# Altium schematic symbol library AP2204K-5.0TRG1.SchLib: 1 symbol
Pins are listed as number, name and electrical type; pins without a type are passive.

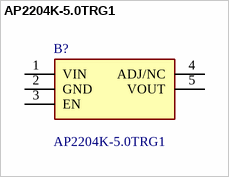
[diagram p0: symbol AP2204K-5.0TRG1]

## AP2204K-5.0TRG1
designator B?
0.2A 5V Low Dropout Regulator SOT-23 DiodesZetex AP2204K-5.0TRG1, LDO Voltage Regulator, 200mA, 5 V, 2.3  24 Vin, 5-Pin SOT-23; Manufacturer_Name: Diodes Incorporated; Geometry.Height: 1.45mm; Mouser Part Number: 621-AP2204K-5.0TRG1; Mouser Price/Stock: https://www.mouser.co.uk/ProductDetail/Diodes-Incorporated/AP2204K-5.0TRG1?qs=x6A8l6qLYDBM5Z%2F7Sw%252BT6g%3D%3D; Manufacturer_Part_Number: AP2204K-5.0TRG1; Datasheet Link: https://componentsearchengine.com/Datasheets/1/AP2204K-5.0TRG1.pdf
footprint SOT95P282X145-5N
pins: 1 VIN, 2 GND, 3 EN, 4 ADJ/NC, 5 VOUT